# Altium footprint library PcbLib1.PcbLib: 10 footprints
Each footprint in its own frame and in the unit in brackets; x right, y up, seen from the top. Pads: shape width x height; smd on the part's side, far side on the other; paste and mask are expansions set on the pad; w line width, h text height; cw(c..) or ccw(c..) is an arc to the next point about the centre after c.
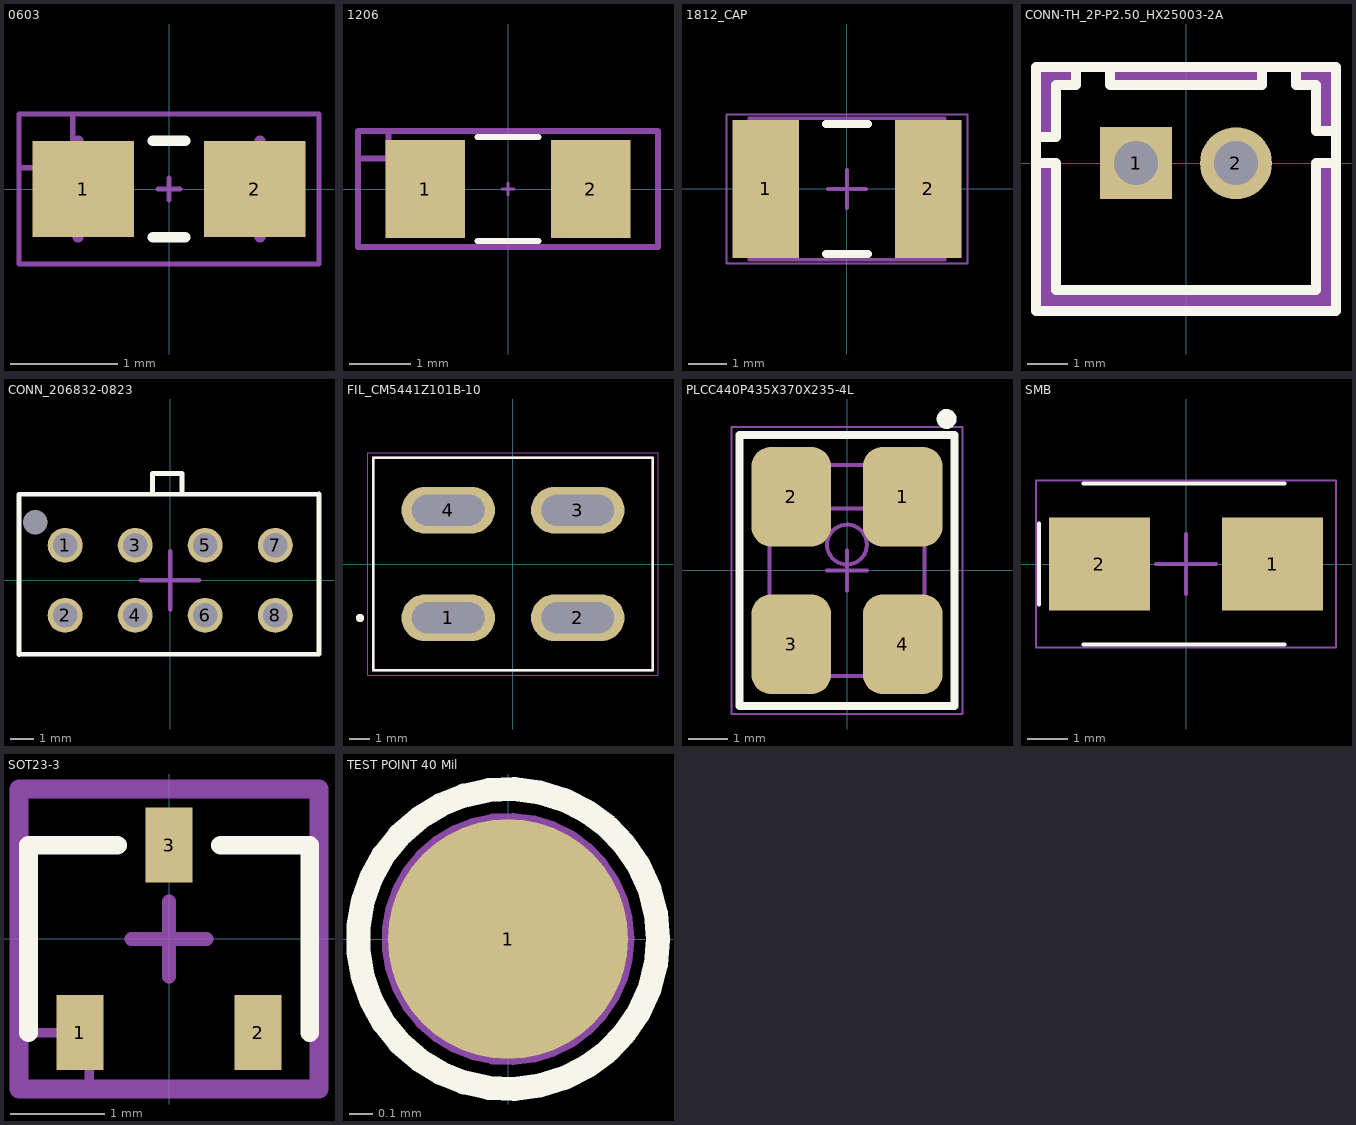
[diagram p0: the footprints below, top view; thin cyan lines are the x and y axes]

## 0603 [mm] "Chip Capacitor, 2-Leads, Body 1.60x0.80mm, IPC Medium Density"
height 0.6
pads (2):
  rect 0.95x0.9 smd: 1(-0.8,0) 2(0.8,0)
Top Overlay:
  lines w0.1: -0.15,-0.45 0.15,-0.45 ; -0.15,0.45 0.15,0.45
Top Courtyard:
  lines w0.05: -1.4,0.2 -0.9,0.2 -0.9,0.675 ; -0.1,0 0.1,0 ; 0,-0.1 0,0.1 ; -1.4,-0.7 1.4,-0.7 1.4,0.7 -1.4,0.7 -1.4,-0.7
Top Designator:
  text ".Designator" at -1.3,-0.3 h1
Top 3D Body:
  lines w0.1: -0.85,-0.45 -0.85,0.45 ; 0.85,-0.45 0.85,0.45
3D body: height 0.6, standoff 0, extent -0.45,-0.45 0.45,0.45
3D body: height 0.6, standoff 0, extent 0.45,-0.45 0.85,0.45
3D body: height 0.6, standoff 0, extent -0.85,-0.45 -0.45,0.45

## 1206 [mm] "Generic 1206"
height 3
pads (2):
  rect 1.3x1.6 smd: 1(-1.35,0) 2(1.35,0)
Top Overlay:
  lines w0.1: -0.5,-0.85 0.5,-0.85 ; -0.5,0.85 0.5,0.85
Top Courtyard:
  lines w0.05: -0.1,0 0.1,0 ; 0,-0.1 0,0.1
  lines w0.1: -2.45,0.5 -1.95,0.5 -1.95,0.95 ; -2.45,-0.95 2.45,-0.95 2.45,0.95 -2.45,0.95 -2.45,-0.95
Top Designator:
  text ".Designator" at -2.3,-0.5 h1
3D body "User Library-CAPC3216X___.STEP": height 0.57, standoff 0, extent -1.6,-0.81 1.6,0.81

## 1812_CAP [mm]
height 2.8
pads (2):
  rect 1.75x3.6 smd: 1(-2.125,0) 2(2.125,0)
Top Overlay:
  lines w0.2: -0.55,-1.7 0.55,-1.7 ; -0.55,1.7 0.55,1.7
Top Assembly:
  lines w0.1: -2.55,-1.85 -2.55,1.85 2.55,1.85 2.55,-1.85 -2.55,-1.85
Top Component Center:
  lines w0.1: -0.5,0 0.5,0 ; 0,-0.5 0,0.5
Top Courtyard:
  lines w0.05: -3.15,-1.95 -3.15,1.95 3.15,1.95 3.15,-1.95 -3.15,-1.95
Top Designator:
  text ".Designator" at -2.252,-0.226 h1
3D body "1812_CAP.step": height 2.8, standoff 0, extent -2.55,-1.85 2.55,1.85

## CONN-TH_2P-P2.50_HX25003-2A [mm]
pads (2):
  rect 1.8x1.8 hole 1.1 paste+0 mask+0.05: 1(-1.25,0)
  round 1.8 hole 1.1 paste+0 mask+0.05: 2(1.25,0)
Top Overlay:
  lines w0.254: -3.75,-2.416 -3.75,0 -3.25,0 -3.25,-2.416 -3.25,-3.167 3.25,-3.167 3.25,-2.344 3.25,0 3.75,0 3.75,-2.344 ; -3.75,-1.603 -3.75,0.648 -3.25,0.65 -3.25,1.958 -2.75,1.958 -2.75,2.408 ; -1.9,1.95 -1.9,2.4 ; -1.9,1.958 1.9,1.958 ; 1.9,1.95 1.9,2.4 ; 2.75,1.95 2.75,2.399 ; 2.75,1.958 3.25,1.958 3.25,0.8 3.75,0.8 3.75,-1.501 ; -3.75,-3.7 3.75,-3.7 3.75,2.4 -3.75,2.4 -3.75,-3.7
Mechanical 15:
  region: 2.75,1.95 3.242,1.95 3.25,1.958 3.25,0.8 3.75,0.8 3.75,2.4 2.751,2.4 2.75,2.399
  region: -2.75,1.9 -3.241,1.9 -3.25,1.908 -3.25,0.75 -3.75,0.75 -3.75,2.35 -2.751,2.35 -2.75,2.349
  region: 3.25,0 3.75,0 3.75,-3.7 -3.75,-3.7 -3.75,-0.05 -3.25,0 -3.25,-3.167 3.25,-3.167
  region: 1.9,2.4 1.9,1.9 -1.9,1.9 -1.9,2.4
3D body "JST - XH - Thru (V) - 2Pin - 2.54mm.stp": height 7.21, standoff -3, extent -3.607,-3.353 3.607,2.489

## CONN_206832-0823 [mm]
height 9.4
pads (9):
  round 0 hole 1.05 unplated: 0(-5.78,2.48)
  round 1.5 hole 1.05: 1(-4.5,1.5) 2(-4.5,-1.5) 3(-1.5,1.5) 4(-1.5,-1.5) 5(1.5,1.5) 6(1.5,-1.5) 7(4.5,1.5) 8(4.5,-1.5)
Top Overlay:
  lines w0.2: -0.762,3.683 -0.762,4.572 0.465,4.572 ; 0.508,3.683 0.508,4.572 ; -6.477,-3.176 6.373,-3.165 6.373,3.695 -6.477,3.684 -6.477,-3.176
Top Component Center:
  lines w0.2: -1.25,0 1.25,0 ; 0,-1.25 0,1.25
Top Courtyard:
  lines w0.2: -1.25,0 1.25,0 ; 0,-1.25 0,1.25
3D body "2068320823.stp": height 9.95, standoff -3.14, extent -6.425,-3.43 6.425,4.83

## FIL_CM5441Z101B-10 [mm]
pads (4):
  oval 4.58x2.29 hole 1.52 slot 3.56 at 0 deg: 1(-3.175,-2.64) 2(3.175,-2.64) 3(3.175,2.64) 4(-3.175,2.64)
Top Overlay:
  circle w0.2: c-7.5,-2.64 r0.1
  lines w0.127: -6.86,-5.205 -6.86,5.205 6.86,5.205 6.86,-5.205 -6.86,-5.205
Top 3D Body:
  circle w0.2: c-7.5,-2.64 r0.1
  lines w0.127: -6.86,-5.205 -6.86,5.205 6.86,5.205 6.86,-5.205 -6.86,-5.205
Mechanical 15:
  lines w0.05: -7.11,-5.455 7.11,-5.455 7.11,5.455 -7.11,5.455 -7.11,-5.455
3D body "step_temp.STEP": height 10.77, standoff -3.38, extent -6.86,-5.205 6.86,5.205

## PLCC440P435X370X235-4L [mm] "Leaded Chip Carrier, 4-Leads, Body 4.35x3.70mm, Pitch 4.400mm, IPC High Density"
height 2.35
pads (4):
  rrect50% 2x2.5 smd: 1(1.4,1.852) 2(-1.4,1.852) 3(-1.4,-1.852) 4(1.4,-1.852)
Top Overlay:
  circle w0.25: c2.5,3.8 r0.125
  lines w0.2: -2.7,-3.4 -2.7,3.4 2.7,3.4 2.7,-3.4 -2.7,-3.4
Top Courtyard:
  lines w0.05: -2.9,-3.6 2.9,-3.6 2.9,3.6 -2.9,3.6 -2.9,-3.6
  lines w0.1: -0.5,0 0.5,0 ; 0,-0.5 0,0.5
Top Designator:
  text ".Designator" at -1.173,7.544 h1
Top 3D Body:
  circle w0.1: c0,0.65 r0.5
  lines w0.1: 1.95,1.55 -1.95,1.55 ; -1.95,1.55 -0.85,2.65 1.95,2.65 1.95,-2.65 -1.95,-2.65 -1.95,1.55
3D body "PLCC440P435X370X235-4L.step": height 2.35, standoff 0, extent -2.375,-2.65 2.375,2.65

## SMB [mm] "SMB diode"
pads (2):
  rect 2.5x2.3 smd: 1(2.15,0) 2(-2.15,0)
Top Overlay:
  lines w0.1: -3.65,-1 -3.65,1 ; -2.55,-2 2.45,-2 ; -2.55,2 2.45,2
Top Component Center:
  lines w0.1: -0.75,0 0.75,0 ; 0,-0.75 0,0.75
Top Courtyard:
  lines w0.05: -3.725,-2.075 -3.725,2.075 3.725,2.075 3.725,-2.075 -3.725,-2.075
  lines w0.1: -0.75,0 0.75,0 ; 0,-0.75 0,0.75
Top Designator:
  text ".Designator" at -2.252,-0.226 h1
3D body "User Library-DO-214AA(SMB).STEP": height 2.6, standoff -0.04, extent -2.794,-1.975 2.794,1.975

## SOT23-3 [mm]
pads (3):
  rect 0.5x0.8 smd: 1(-0.95,-1) 2(0.95,-1) 3(0,1)
Top Overlay:
  lines w0.2: -1.5,-1 -1.5,1 -0.55,1 ; 0.55,1 1.5,1 1.5,-1
Top Courtyard:
  lines w0.1: -1.5,-1 -0.85,-1 -0.85,-1.6
  lines w0.15: -0.4,0 0.4,0 ; 0,-0.4 0,0.4
  lines w0.2: -1.6,-1.6 1.6,-1.6 1.6,1.6 -1.6,1.6 -1.6,-1.6
Top Designator:
  text ".Designator" at -2.252,-0.226 h1
3D body "User Library-SOT95P240X110-3M[SOT23-3_TO-236AB].STEP": height 1.09, standoff 0, extent -1.5,-1.25 1.5,1.25

## TEST POINT 40 Mil [mil] "MFG_PN:"
height 35.43
pads (1):
  round 40 smd paste-999 mask+0: 1(0,0)
Top Overlay:
  circle w4: c0,0 r25
Mechanical 29:
  circle w2: c0,0 r20.06
  text ".Designator" at -10.16,-1.49 h10